# EAGLE library part HALFBRIDGE (library gimbal)
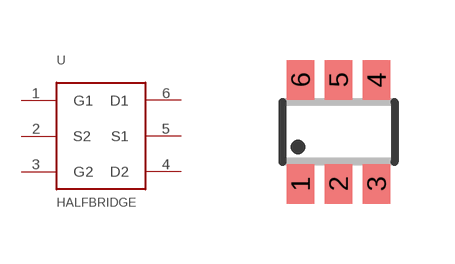
[diagram p0: symbol with the pads of SSOT6; footprint SSOT6]

Designator prefix -

## HALFBRIDGE  [SSOT6]
1  G1
2  S2
3  G2
4  D2
5  S1
6  D1

## Footprint SSOT6 (pad centres in mm)
SuperSOT-6 Source: Fairchild Semiconductor International ssot6_dim.pdf September 1998, Rev. A
smd 0.69 x 0.99: 1 -0.95,-1.3; 2 0,-1.3; 3 0.95,-1.3; 4 0.95,1.3; 5 0,1.3; 6 -0.95,1.3